# Altium schematic symbol library Controller-Board.SCHLIB: 27 symbols
Pins are listed as number, name and electrical type; pins without a type are passive.

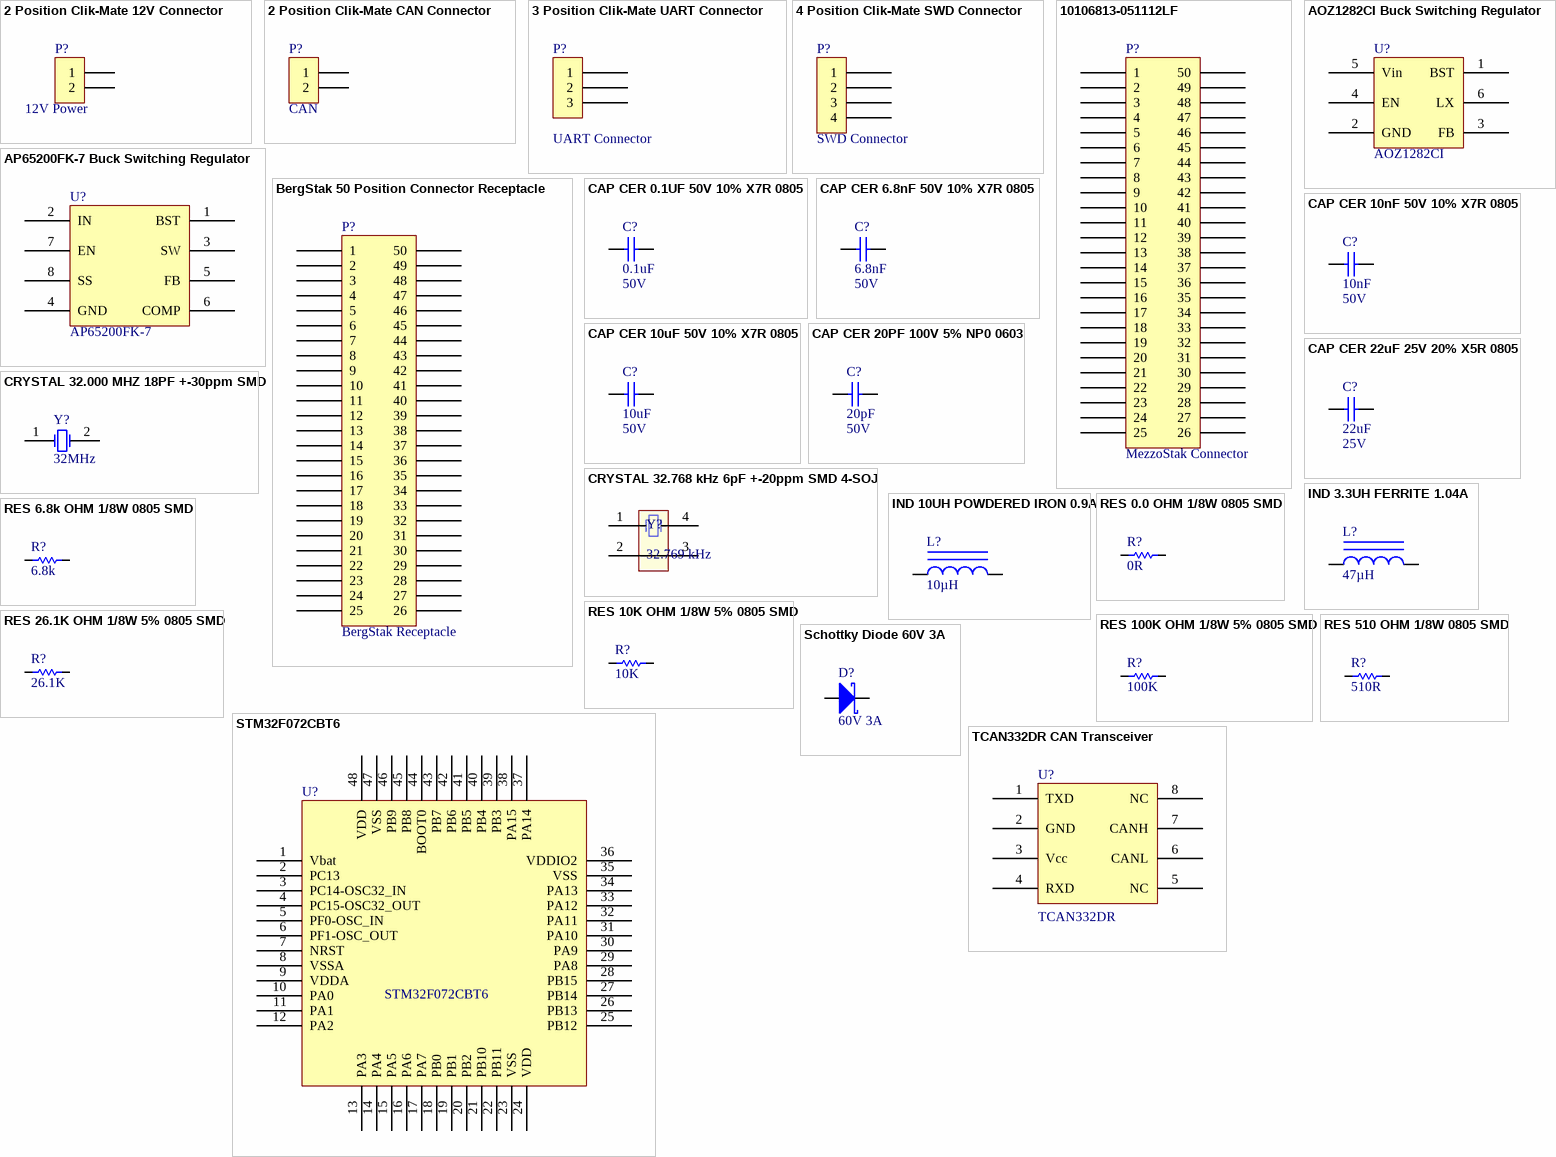
[diagram p0: symbols 2 Position Clik-Mate 12V Connector to TCAN332DR CAN Transceiver]

## 2 Position Clik-Mate 12V Connector
designator P?, comment 12V Power
2 Position Receptacle Connector 0.059" (1.50mm) Surface Mount Tin; Manufacturer Part Number: 5025840270; Digikey Part Number: WM9811CT-ND
pins: 1, 2

## 2 Position Clik-Mate CAN Connector
designator P?, comment CAN
2 Position Receptacle Connector 0.049" (1.25mm) Surface Mount Tin; Manufacturer Part Number: 5023820270; Digikey Part Number: WM4780CT-ND
pins: 1, 2

## 3 Position Clik-Mate UART Connector
designator P?, comment UART Connector
3 Position Receptacle Connector 0.049" (1.25mm) Surface Mount Tin; Maufacturer Part Number: 5023820370; Digikey Part Number: WM3918CT-ND; ComponentLink1Description: datasheet; ComponentLink1URL: http://www.molex.com/pdm_docs/sd/5023820370_sd.pdf
pins: 1, 2, 3

## 4 Position Clik-Mate SWD Connector
designator P?, comment SWD Connector
4 Position Receptacle Connector 0.059" (1.50mm) Surface Mount Gold; Maufacturer Part Number: 5054050470; Digikey Part Number: WM12858CT-ND
pins: 1, 2, 3, 4

## 10106813-051112LF
designator P?, comment MezzoStak Connector
50 Position Connector Self Mating, Non-Gendered Surface Mount Gold or Gold, GXT™; Manufacturer Part Number: 10106813-051112LF; Digikey Part Number: 609-4602-1-ND
footprint 10106813-051112LF (Mezzostak Mezzanine Header)
pins: 1, 2, 3, 4, 5, 6, 7, 8, 9, 10, 11, 12, 13, 14, 15, 16, 17, 18, 19, 20, 21, 22, 23, 24, 25, 26, 27, 28, 29, 30, 31, 32, 33, 34, 35, 36, 37, 38, 39, 40, 41, 42, 43, 44, 45, 46, 47, 48, 49, 50

## AOZ1282CI Buck Switching Regulator
designator U?  Manufacturer Part Number: AOZ1282CI  (hidden comment: AOZ1282CI Buck Switching Regulator)
IC REG BUCK ADJ 1.2A SOT23-6; Digikey Part Number: 785-1613-1-ND
pins: 1 BST, 2 GND, 3 FB, 4 EN, 5 Vin, 6 LX

## AP65200FK-7 Buck Switching Regulator
designator U?  Manufacturer Part Number: AP65200FK-7  (hidden comment: AP65200FK-7 Buck Switching Regulator)
Buck Switching Reg IC Positive Adjustable 0.925V 1 Output 2A 10-UFDFN Exposed Pad; Digikey Part Number: AP65200FK-7DICT-ND
pins: 1 BST, 2 IN, 3 SW, 4 GND, 5 FB, 6 COMP, 7 EN, 8 SS

## BergStak 50 Position Connector Receptacle
designator P?, comment BergStak Receptacle
50 Position Connector Receptacle, Center Strip Contacts Surface Mount Gold; Manufacturer Part Number: 10132798-052100LF; Digikey Part Number: 609-5227-1-ND
pins: 1, 2, 3, 4, 5, 6, 7, 8, 9, 10, 11, 12, 13, 14, 15, 16, 17, 18, 19, 20, 21, 22, 23, 24, 25, 26, 27, 28, 29, 30, 31, 32, 33, 34, 35, 36, 37, 38, 39, 40, 41, 42, 43, 44, 45, 46, 47, 48, 49, 50

## CAP CER 0.1UF 50V 10% X7R 0805
designator C?, comment 0.1uF  Voltage: 50V
0.10µF 50V Ceramic Capacitor X7R 0805 (2012 Metric) 0.079" L x 0.049" W (2.00mm x 1.25mm); Manufacturer: AVX Corporation; ManufacturerPartNumber: 08055C104K4Z2A; Value: 0.1uF; Supplier: Digi-Key; SupplierPartNumber: 478-6048-1-ND
footprint 6-0805_N (Chip Resistor, Body 2.0x1.2mm, IPC Medium Density)
pins: 1, 2

## CAP CER 6.8nF 50V 10% X7R 0805
designator C?, comment 6.8nF  Voltage: 50V
6800pF 50V Ceramic Capacitor X7R 0805 (2012 Metric) 0.079" L x 0.049" W (2.00mm x 1.25mm); Manufacturer: Samsung Electro-Mechanics America, Inc.; ManufacturerPartNumber: CL21B682KBANNNC; Value: 6.8nF; Supplier: Digi-Key; SupplierPartNumber: 1276-1799-1-ND
footprint 6-0805_N (Chip Resistor, Body 2.0x1.2mm, IPC Medium Density)
pins: 1, 2

## CAP CER 10nF 50V 10% X7R 0805
designator C?, comment 10nF  Voltage: 50V
10000pF 50V Ceramic Capacitor X7R 0402 (1005 Metric) 0.039" L x 0.020" W (1.00mm x 0.50mm); Manufacturer: Murata Electronics North America; ManufacturerPartNumber: GRM155R71H103KA88D; Value: 10nF; Supplier: Digi-Key; SupplierPartNumber: 490-4516-1-ND
footprint 6-0805_N (Chip Resistor, Body 2.0x1.2mm, IPC Medium Density)
pins: 1, 2

## CAP CER 10uF 50V 10% X7R 0805
designator C?, comment 10uF  Voltage: 50V
10µF 25V Ceramic Capacitor X5R 0805 (2012 Metric) 0.079" L x 0.049" W (2.00mm x 1.25mm); Manufacturer: Samsung Electro-Mechanics America, Inc.; ManufacturerPartNumber: CL21A106KAFN3NE; Value: 10uF; Supplier: Digi-Key; SupplierPartNumber: 1276-2890-1-ND
footprint 6-0805_N (Chip Resistor, Body 2.0x1.2mm, IPC Medium Density)
pins: 1, 2

## CAP CER 20PF 100V 5% NP0 0603
designator C?, comment 20pF  Voltage: 50V
22pF 100V Ceramic Capacitor C0G, NP0 0603 (1608 Metric) 0.063" L x 0.031" W (1.60mm x 0.80mm); ManufacturerPartNumber: GCM1885C2A220JA16D; Manufacturer: Murata Electronics North America; Value: 20pF; SupplierPartNumber: 490-4942-1-ND; Supplier: Digi-Key
footprint 1608[0603] (Chip Capacitor, Body 1.6x0.8mm, IPC High Density)
pins: 1, 2

## CAP CER 22uF 25V 20% X5R 0805
designator C?, comment 22uF  Voltage: 25V
22µF 25V Ceramic Capacitor X5R 0805 (2012 Metric) 0.079" L x 0.049" W (2.00mm x 1.25mm); Manufacturer: Murata Electronics North America; ManufacturerPartNumber: GRT21BR61E226ME13L; Value: 22uF; Supplier: Digi-Key; SupplierPartNumber: 490-12389-1-ND
footprint 6-0805_N (Chip Resistor, Body 2.0x1.2mm, IPC Medium Density)
pins: 1, 2

## CRYSTAL 32.000 MHZ 18PF +-30ppm SMD
designator Y?, comment 32MHz
32MHz ±30ppm Crystal 18pF 40 Ohm -40°C ~ 85°C Surface Mount HC49/US; ManufacturerPartNumber: ABLS2-32.000MHZ-D4YF-T; Manufacturer: Abracon LLC; Frequency: 32MHz; Supplier: Digi-Key; SupplierPartNumber: 535-9888-1-ND
footprint XTAL
pins: 1 OSC1, 2 OSC2

## CRYSTAL 32.768 kHz 6pF +-20ppm SMD 4-SOJ
designator Y?, comment 32.769 kHz
32.768kHz ±20ppm Crystal 6pF 50 kOhm -40°C ~ 85°C Surface Mount 4-SOJ, 5.50mm pitch; Manufacturer Part Number: ABS25-32.768KHZ-6-T; VALUE: 32.769 kHz; Digikey Part Number: 535-10240-1-ND
pins: 1 OSC1, 2, 3, 4 OSC2

## IND 3.3UH FERRITE 1.04A
designator L?, comment 47µH
Manufacturer: TDK Corporation; Manufacturer Part Number: VLS201612CX-3R3M; Type: Wirewound; Material - Core: Ferrite; Tolerance: ±20%; Current Rating: 1.37A; Current - Saturation: 1.04A; Shielding: Shielded; DC Resistance (DCR): 170 mOhm Max; Frequency - Test: 1MHz; Supplier 1: Digi-Key; Supplier Part Number 1: 445-172964-1-ND; RoHS: RoHS Compliant; Category: Inductors, Coils, Chokes; Stock 1: 4000; Pricing 1: 1=0.43, 10=0.387, 50=0.3014, 100=0.2798, 500=0.24538, 1000=0.19803 (USD); Packaging: Cut Tape (CT); Q @ Freq: -; Frequency - Self Resonant: -; Operating Temperature: -40°C ~ 105°C; Mounting Type: Surface Mount; Package / Case: Nonstandard; Size / Dimension: 0.079" L x 0.063" W (2.00mm x 1.60mm); Height - Seated (Max): 0.047" (1.20mm); Supplier Device Package: 2016; ComponentLink1URL: http://product.tdk.com/en/catalog/datasheets/inductor_commercial_power_vls-cx_en.pdf; ComponentLink1Description: http://product.tdk.com/en/catalog/datasheets/inductor_commercial_power_vls-cx_en.pdf; Inductance: 47µH
footprint 1264EY-470M=P3 (47uH Shielded Inductor 1.7A)
pins: 1, 2

## IND 10UH POWDERED IRON 0.9A
designator L?, comment 10µH
10µH Shielded Wirewound Inductor 900mA 420 mOhm Max 1210 (3225 Metric); Manufacturer: Murata Electronics North America; Manufacturer Part Number: 1277AS-H-100M=P2; Tolerance: ±20%; Current Rating: 0.9A; Current - Saturation: 1.25A; Supplier 1: Digi-Key; Supplier Part Number 1: 490-10589-1-ND; Type: Wirewound; Shielding: Shielded; DC Resistance (DCR): 420 mOhm Max; Height - Seated (Max): 0.047" (1.20mm); ComponentLink1URL: http://www.toko.co.jp/products-murata/pdf/inductors/m_dfe322512c.pdf; ComponentLink1Description: datasheet; Inductance: 10µH
footprint 1264EY-470M=P3 (47uH Shielded Inductor 1.7A)
pins: 1, 2

## RES 0.0 OHM 1/8W 0805 SMD
designator R?, comment 0R
ManufacturerPartNumber: CRCW08050000Z0EA; Manufacturer: Vishay Dale; Nostuff: DNI; Value: 0R; Supplier: Digi-Key; SupplierPartNumber: 541-0.0ACT-ND
footprint 6-0805_L (Chip Resistor, Body 2.0x1.2mm, IPC High Density)
footprint 6-0805_M (Chip Resistor, Body 2.0x1.2mm, IPC Low Density)
footprint 6-0805_N (Chip Resistor, Body 2.0x1.2mm, IPC Medium Density)
pins: 1, 2

## RES 6.8k OHM 1/8W 0805 SMD
designator R?, comment 6.8k
RES SMD 6.8K OHM 5% 1/8W 0805; ManufacturerPartNumber: RC0805JR-076K8L; Manufacturer: Yageo; Value: 6.8k; Supplier: Digi-Key; SupplierPartNumber: 311-6.8KARCT-ND
footprint 6-0805_L (Chip Resistor, Body 2.0x1.2mm, IPC High Density)
footprint 6-0805_M (Chip Resistor, Body 2.0x1.2mm, IPC Low Density)
footprint 6-0805_N (Chip Resistor, Body 2.0x1.2mm, IPC Medium Density)
pins: 1, 2

## RES 10K OHM 1/8W 5% 0805 SMD
designator R?, comment 10K
ManufacturerPartNumber: CRCW080510K0JNEA; Manufacturer: Vishay Dale; Value: 10K; Supplier: Digi-Key; SupplierPartNumber: 541-10KACT-ND
footprint 6-0805_N (Chip Resistor, Body 2.0x1.2mm, IPC Medium Density)
footprint 6-0805_M (Chip Resistor, Body 2.0x1.2mm, IPC Low Density)
footprint 6-0805_L (Chip Resistor, Body 2.0x1.2mm, IPC High Density)
pins: 1, 2

## RES 26.1K OHM 1/8W 5% 0805 SMD
designator R?, comment 26.1K
RES SMD 26.1K OHM 1% 1/8W 0805; ManufacturerPartNumber: RC0805FR-0726K1L; Manufacturer: Yageo; Value: 26.1K; Supplier: Digi-Key; SupplierPartNumber: 311-26.1KCRCT-ND
footprint 6-0805_N (Chip Resistor, Body 2.0x1.2mm, IPC Medium Density)
footprint 6-0805_M (Chip Resistor, Body 2.0x1.2mm, IPC Low Density)
footprint 6-0805_L (Chip Resistor, Body 2.0x1.2mm, IPC High Density)
pins: 1, 2

## RES 100K OHM 1/8W 5% 0805 SMD
designator R?, comment 100K
RES SMD 100K OHM 1% 1/8W 0805; ManufacturerPartNumber: RC0805FR-07100KL; Manufacturer: Yageo; Value: 100K; Supplier: Digi-Key; SupplierPartNumber: 311-100KCRCT-ND
footprint 6-0805_N (Chip Resistor, Body 2.0x1.2mm, IPC Medium Density)
footprint 6-0805_M (Chip Resistor, Body 2.0x1.2mm, IPC Low Density)
footprint 6-0805_L (Chip Resistor, Body 2.0x1.2mm, IPC High Density)
pins: 1, 2

## RES 510 OHM 1/8W 0805 SMD
designator R?, comment 510R
RES SMD 510 OHM 5% 1/8W 0805; ManufacturerPartNumber: RMCF0805JT510R; Manufacturer: Stackpole Electronics Inc.; Value: 510R; Supplier: Digi-Key; SupplierPartNumber: RMCF0805JT510RCT-ND
footprint 6-0805_L (Chip Resistor, Body 2.0x1.2mm, IPC High Density)
footprint 6-0805_M (Chip Resistor, Body 2.0x1.2mm, IPC Low Density)
footprint 6-0805_N (Chip Resistor, Body 2.0x1.2mm, IPC Medium Density)
pins: 1, 2

## Schottky Diode 60V 3A
designator D?, comment 60V 3A
DIODE SCHOTTKY 60V 3A SMA; Manufacturer Part Number: B360A-13-F; Digikey Part Number: B360A-FDICT-ND
pins: 1, 2

## STM32F072CBT6
designator U?
Digikey Part Number: 497-14645-ND; Manufacturer Part Number: STM32F072CBT6
pins: 1 Vbat, 2 PC13, 3 PC14-OSC32_IN, 4 PC15-OSC32_OUT, 5 PF0-OSC_IN, 6 PF1-OSC_OUT, 7 NRST, 8 VSSA, 9 VDDA, 10 PA0, 11 PA1, 12 PA2, 13 PA3, 14 PA4, 15 PA5, 16 PA6, 17 PA7, 18 PB0, 19 PB1, 20 PB2, 21 PB10, 22 PB11, 23 VSS, 24 VDD, 25 PB12, 26 PB13, 27 PB14, 28 PB15, 29 PA8, 30 PA9, 31 PA10, 32 PA11, 33 PA12, 34 PA13, 35 VSS, 36 VDDIO2, 37 PA14, 38 PA15, 39 PB3, 40 PB4, 41 PB5, 42 PB6, 43 PB7, 44 BOOT0, 45 PB8, 46 PB9, 47 VSS, 48 VDD

## TCAN332DR CAN Transceiver
designator U?  Manufacturer Part Number: TCAN332DR  (hidden comment: TCAN332DR CAN Transceiver)
1/1 Transceiver CAN 8-SOIC; Digikey Part Number: 296-43711-1-ND
pins: 1 TXD, 2 GND, 3 Vcc, 4 RXD, 5 NC, 6 CANL, 7 CANH, 8 NC